# Altium schematic symbol library Connector_clamp_x6.SCHLIB: 1 symbol
Pins are listed as number, name and electrical type; pins without a type are passive.

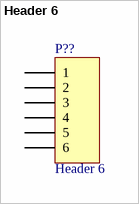
[diagram p0: symbol Header 6]

## Header 6
designator P??
Header, 6-Pin; LatestRevisionDate: 17-Jul-2002; LatestRevisionNote: Re-released for DXP Platform.; Publisher: Altium Limited
footprint Connector Clamp 6
pins: 1, 2, 3, 4, 5, 6